# Altium footprint library wydiode.PcbLib: 1 footprints
Each footprint in its own frame and in the unit in brackets; x right, y up, seen from the top. Pads: shape width x height; smd on the part's side, far side on the other; paste and mask are expansions set on the pad; w line width, h text height; cw(c..) or ccw(c..) is an arc to the next point about the centre after c.
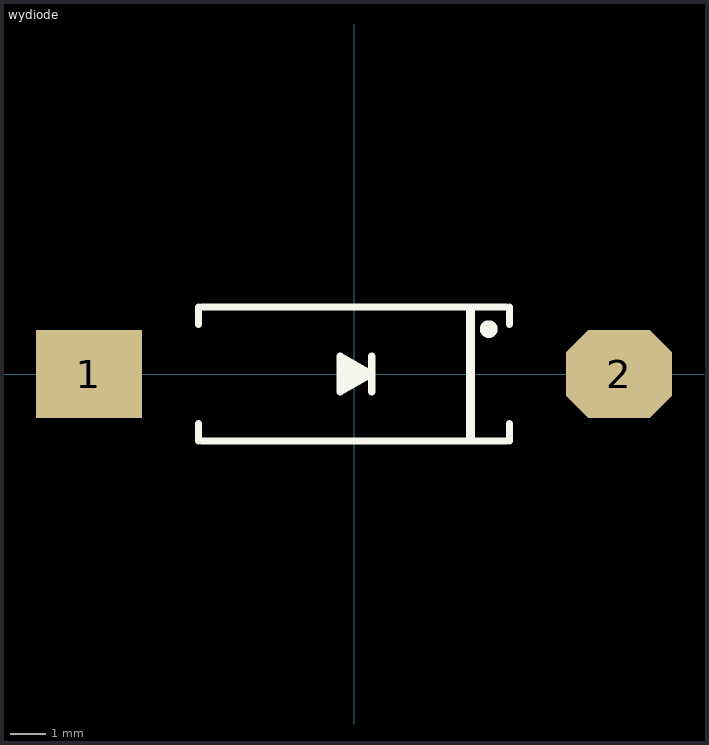
[diagram p0: the footprint, top view; thin cyan lines are the x and y axes]

## wydiode [mm]
pads (2):
  rect 3x2.5 smd: 1(-7.5,0)
  oct 3x2.5 smd: 2(7.5,0)
Top Overlay:
  circle w0.25: c3.81,1.27 r0.125
  lines w0.2: -4.4,-1.9 -4.4,-1.4 ; -4.4,1.4 -4.4,1.9 ; -4.318,-1.9 4.318,-1.9 ; -4.318,1.9 4.318,1.9 ; 4.4,-1.9 4.4,-1.4 ; 4.4,1.4 4.4,1.9
  lines w0.203: 0.5,-0.508 0.5,0.508 ; -0.389,-0.508 0.5,0 -0.389,0.508 -0.389,-0.508
  lines w0.254: -0.254,0 0.279,0 ; 3.302,-1.778 3.302,1.778 ; 0.279,0 -0.229,-0.305 -0.229,0.279 0.279,0